# Altium schematic symbol library Schlib1.SchLib: 2 symbols
Pins are listed as number, name and electrical type; pins without a type are passive.

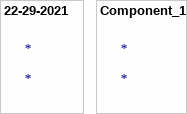
[diagram p0: symbols 22-29-2021 to Component_1]

## 22-29-2021
designator *
KK 254 Wire-to-Board Header, Vertical, with Friction Lock, 2 Circuits, Gold (Au) Plating; Manufacturer: Molex; Plating: 154ConductorMaterial; Number of Positions: 2; Voltage Rating (DC): 250V; Gender: 29Gender; Glow Wire Compliant: 16Compliance; Supplier: Mouser; Supplier Part Number: 538-22-29-2021; Manufacturer Part Number: 22-29-2021; RoHS: Yes; Category: Headers and Wire Housings; Stock: 29113; Pricing: 1=0.43, 10=0.349, 50=0.309, 100=0.277, 1000=0.21, 10000=0.19 (USD); Contact Plating: Gold; Contact Material: Tin; Housing Color: Natural; Color: 47Colour; Number of Rows: 1; Package Quantity: 24000; Packaging: Bulk; Termination: Through Hole; Series: 6410; Contact Type: -; Lead Free: Lead Free; Flammability Rating: UL94 V-0; RoHS Compliant: Yes; Reach SVHC Compliant: Yes; Halogen Free: 5696HalogenFree; ComponentLink1URL: http://components.arrow.com/part/dataview/4706481S3156545N3303?src-supplier=Arrow+Electronics; ComponentLink1Description: http://components.arrow.com/part/dataview/4706481S3156545N3303?src-supplier=Arrow+Electronics; ComponentLink2URL: http://www.farnell.com/datasheets/2695416.pdf?src-supplier=Farnell; ComponentLink2Description: http://www.farnell.com/datasheets/2695416.pdf?src-supplier=Farnell; ComponentLink3URL: https://www.verical.com/server-webapp/html/getDatasheet?partID=243638&src-supplier=Verical; ComponentLink3Description: https://www.verical.com/server-webapp/html/getDatasheet?partID=243638&src-supplier=Verical; ComponentLink4URL: http://www.farnell.com/datasheets/2695416.pdf?src-supplier=Element14; ComponentLink4Description: http://www.farnell.com/datasheets/2695416.pdf?src-supplier=Element14; ComponentLink5URL: https://datasheet.octopart.com/22-29-2021-Molex-datasheet-33002381.pdf?src-supplier=Newark; ComponentLink5Description: https://datasheet.octopart.com/22-29-2021-Molex-datasheet-33002381.pdf?src-supplier=Newark; ComponentLink6URL: http://www.molex.com/webdocs/datasheets/pdf/en-us/0022292021_PCB_HEADERS.pdf?src-supplier=Avnet; ComponentLink6Description: http://www.molex.com/webdocs/datasheets/pdf/en-us/0022292021_PCB_HEADERS.pdf?src-supplier=Avnet

## Component_1
designator *